# EAGLE library part 90130-3120 (library SamacSys_Parts)
Headers & Wire Housings 2.54MM CGRIDIII HDR 20P R/A DR SHRD TIN Source: Datasheet <https://www.molex.com/pdm_docs/sd/901303120_sd.pdf>
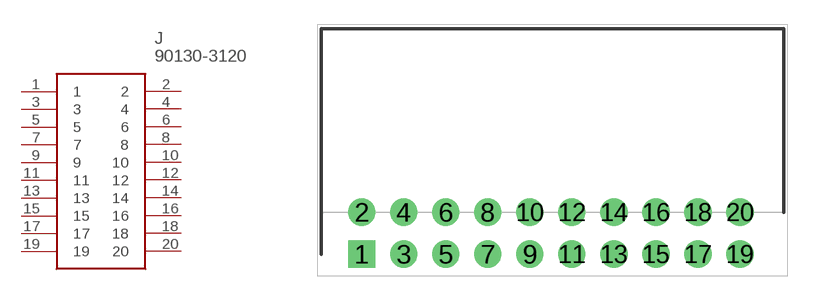
[diagram p0: symbol with the pads of SHDRRA20W65P254_2X10_2774X1090; footprint SHDRRA20W65P254_2X10_2774X1090]

Designator prefix J

## 90130-3120 (Description: Headers & Wire Housings 2.54MM CGRIDIII HDR 20P R/A DR SHRD TIN; Height: 10.05mm; Manufacturer_Name: Molex; Manufacturer_Part_Number: 90130-3120; Mouser_Part_Number: 538-90130-3120; Mouser_Price-Stock: https://www.mouser.co.uk/ProductDetail/Molex/90130-3120?qs=ydg8AyNFqQXtFJqFoBfxnA%3D%3D)  [SHDRRA20W65P254_2X10_2774X1090]
1  1
2  2
3  3
4  4
5  5
6  6
7  7
8  8
9  9
10  10
11  11
12  12
13  13
14  14
15  15
16  16
17  17
18  18
19  19
20  20

## Footprint SHDRRA20W65P254_2X10_2774X1090 (pad centres in mm)
90130-3120
drill 1.1 pad 1.65 square: 1 0,0
drill 1.1 pad 1.65: 2 0,2.54; 3 2.54,0; 4 2.54,2.54; 5 5.08,0; 6 5.08,2.54; 7 7.62,0; 8 7.62,2.54; 9 10.16,0; 10 10.16,2.54; 11 12.7,0; 12 12.7,2.54; 13 15.24,0; 14 15.24,2.54; 15 17.78,0; 16 17.78,2.54; 17 20.32,0; 18 20.32,2.54; 19 22.86,0; 20 22.86,2.54